# Altium schematic symbol library NMOS-2.SchLib: 1 symbol
Pins are listed as number, name and electrical type; pins without a type are passive.

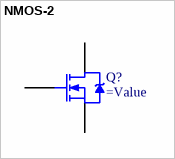
[diagram p0: symbol NMOS-2]

## NMOS-2
designator Q?
=Description
pins: 1 D, 2 S, 3 G